# Altium schematic symbol library micromouse Schematic library.SchLib: 69 symbols
Pins are listed as number, name and electrical type; pins without a type are passive.

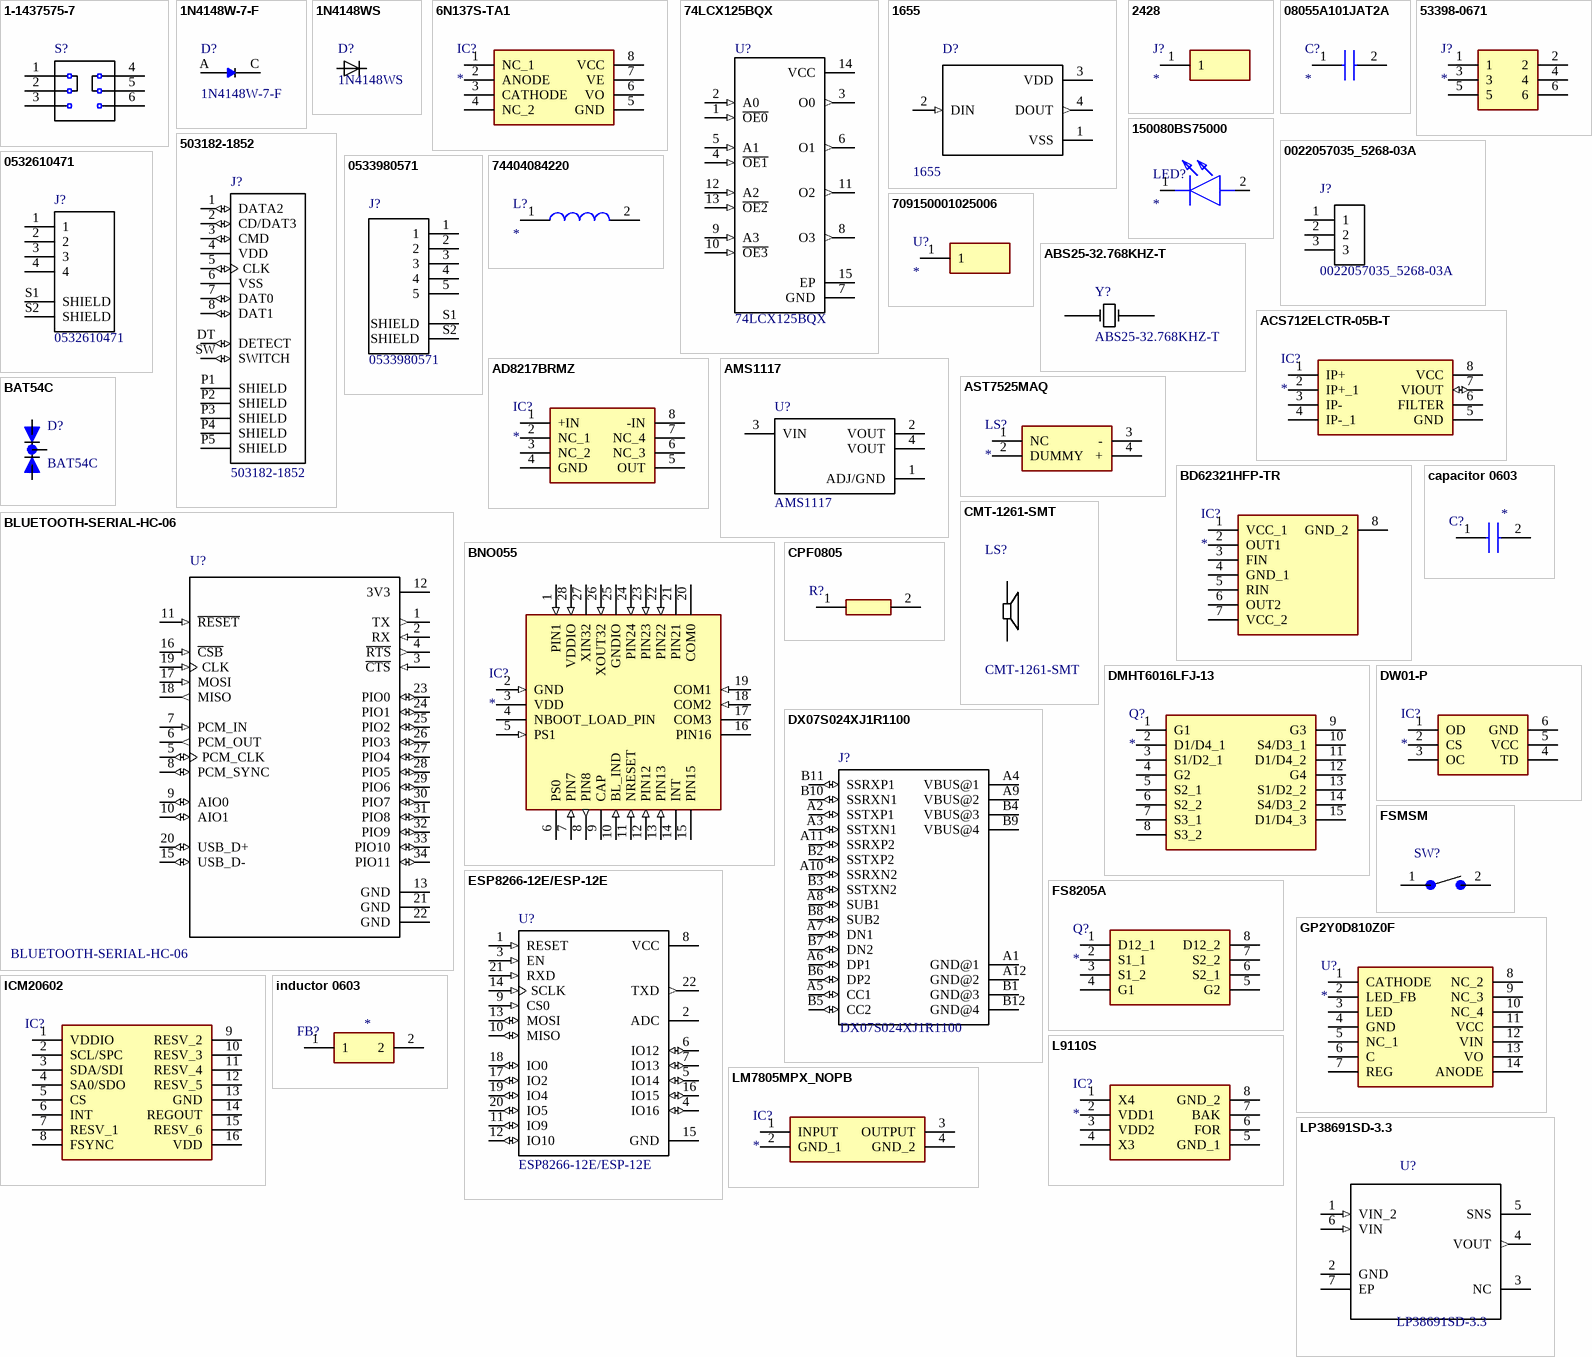
[diagram p0: symbols 1-1437575-7 to LP38691SD-3.3]

## 1-1437575-7
designator S?  (value not drawn)
Slide Switch ON ON DPDT Top Slide 0.4VA 20VAC 20VDC 10000Cycle PC Pins Through Hole; MF: TE Connectivity; Price: None; Package: None; MP: 1-1437575-7; SnapEDA_Link: https://www.snapeda.com/parts/1-1437575-7/TE%20Connectivity%20ALCOSWITCH%20Switches/view-part/?ref=snap; Availability: Unavailable; TE_purchase_URL: https://www.te.com/usa-en/product-1-1437575-7.html?te_bu=Cor&te_type=disp&te_campaign=seda_glo_cor-seda-global-disp-prtnr-fy19-seda-model-bom-cta_sma-317_1&elqCampaignId=32493; Value: *
footprint *SW_1-1437575-7
pins: 1 (power), 2 (power), 3, 4, 5 (power), 6 (power)

## 1N4148W-7-F
designator D?
1N4148W Series 2 A 100 V 400 mW Surface Mount Fast Switching Diode - SOD-123; MF: Diodes Inc.; Package: SOD-123 Diodes Inc.; MP: 1N4148W-7-F; Price: None; Availability: Unavailable; SnapEDA_Link: https://www.snapeda.com/parts/1N4148W-7-F/Diodes%20Inc./view-part/?ref=snap; Value: *
footprint *SOD3715X135N_1N4148W-7-F(Primary)
pins: A, C K

## 1N4148WS
designator D?
Diode Switching 75V 0.3A 2-Pin SOD-323 T/R; MF: ON Semiconductor; Price: None; Package: S-0 Good-Ark; MP: 1N4148WS; Availability: Unavailable; SnapEDA_Link: https://www.snapeda.com/parts/1N4148WS/ON%20Semiconductor/view-part/?ref=snap; Value: *
footprint *SOD323_1N4148WS(Primary)
pins: A, C

## 6N137S-TA1
designator IC?
Integrated Circuit; Manufacturer_Name: Lite-On; Manufacturer_Part_Number: 6N137S-TA1; Datasheet Link: http://www.mouser.com/ds/2/239/S_110_6N137 20140411-596065.pdf; Height: 4mm; Mouser Part Number: 859-6N137STA1; Mouser Price/Stock: https://www.mouser.com/Search/Refine.aspx?Keyword=859-6N137STA1
footprint SOP254P1016X400-8N
pins: 1 NC_1, 2 ANODE, 3 CATHODE, 4 NC_2, 5 GND, 6 VO, 7 VE, 8 VCC

## 74LCX125BQX
designator U?
Buffer/Line Driver 4-CH Non-Inverting 3-ST CMOS 14-Pin DQFN EP T/R; MF: ON Semiconductor; Price: None; MP: 74LCX125BQX; Availability: Unavailable; Package: DQFN-14 Fairchild Semiconductor; SnapEDA_Link: https://www.snapeda.com/parts/74LCX125BQX/ON%20Semiconductor/view-part/?ref=snap; Value: *
footprint *QFN50P300X250X85-15N
pins: 1 ~{OE0} (in), 2 A0 (in), 3 O0 (out), 4 ~{OE1} (in), 5 A1 (in), 6 O1 (out), 7 GND (power), 8 O3 (out), 9 A3 (in), 10 ~{OE3} (in), 11 O2 (out), 12 A2 (in), 13 ~{OE2} (in), 14 VCC (power), 15 EP (power)

## 1655
designator D?
Addressable Lighting Neopixel 10 LED Discrete Serial _Shift Register_ Red, Green, Blue _RGB_ 5.00mm L x 5.00mm W; MF: Adafruit; Digi-Key_Part_Number: 1528-1104-ND; MP: 1655; Package: TO-3 Adafruit; SnapEDA_Link: https://www.snapeda.com/parts/1655/Adafruit%20Industries/view-part/4299409/?ref=snap; Digi-Key_Purchase_URL: https://www.digikey.lk/product-detail/en/adafruit-industries-llc/1655/1528-1104-ND/5154679?utm_source=snapeda&utm_medium=aggregator&utm_campaign=symbol; Value: *
footprint *LED_1655
pins: 1 VSS (power), 2 DIN (in), 3 VDD (power), 4 DOUT (out)

## 2428
designator J?
Connector; Manufacturer_Name: Adafruit; Manufacturer_Part_Number: 2428; Datasheet Link: https://www.arrow.com/en/products/2428/adafruit-industries; Height: 16.5mm; Mouser Part Number: 485-2428; Mouser Price/Stock: https://www.mouser.com/Search/Refine.aspx?Keyword=485-2428
footprint 2428
pins: 1

## 08055A101JAT2A
designator C?
Capacitor; Manufacturer_Name: AVX; Manufacturer_Part_Number: 08055A101JAT2A; Allied_Number: 70474488; Datasheet Link: https://componentsearchengine.com/Datasheets/1/06031A100FAT2A.pdf; Height: 0.94mm; Mouser Part Number: 581-08055A101J; Mouser Price/Stock: https://www.mouser.com/Search/Refine.aspx?Keyword=581-08055A101J; RS Part Number: 0391000P; RS Price/Stock: http://uk.rs-online.com/web/p/products/0391000P; Allied Price/Stock: https://www.alliedelec.com/avx-08055a101jat2a/70474488/
footprint CAPC2012X94N
pins: 1, 2

## 53398-0671
designator J?
Connector; Manufacturer_Name: Molex; Manufacturer_Part_Number: 53398-0671; Allied_Number: 70090674; Datasheet Link: http://docs-emea.rs-online.com/webdocs/13c4/0900766b813c4502.pdf; Mouser Part Number: 538-53398-0671; Mouser Price/Stock: https://www.mouser.com/Search/Refine.aspx?Keyword=538-53398-0671; RS Part Number: 5427214P; RS Price/Stock: http://uk.rs-online.com/web/p/products/5427214P; Allied Price/Stock: http://www.alliedelec.com/molex-incorporated-53398-0671/70090674/
footprint 533980671
pins: 1, 2, 3, 4, 5, 6

## 150080BS75000
designator LED?
LED; Manufacturer_Name: Wurth Elektronik; Manufacturer_Part_Number: 150080BS75000; Datasheet Link: https://katalog.we-online.com/led/datasheet/150080BS75000.pdf; Height: 0.8mm; Mouser Part Number: 710-150080BS75000; Mouser Price/Stock: https://www.mouser.com/Search/Refine.aspx?Keyword=710-150080BS75000; RS Part Number: 8154228P; RS Price/Stock: http://uk.rs-online.com/web/p/products/8154228P
footprint LEDC2012X80N
pins: 1 K, 2 A

## 503182-1852
designator J?
MICRO SD NORMAL ULTRALOWPRO8CKTE; MF: Molex; MP: 5031821852; Availability: Unavailable; Package: None; Price: None; SnapEDA_Link: https://www.snapeda.com/parts/5031821852/Molex/view-part/?ref=snap; Value: *
footprint *MOLEX_503182-1852_503182-1852(Primary)
pins: 1 DATA2 (io), 2 CD/DAT3 (io), 3 CMD (io), 4 VDD (power), 5 CLK (io), 6 VSS (power), 7 DAT0 (io), 8 DAT1 (io), DT DETECT (io), P1 SHIELD, P2 SHIELD, P3 SHIELD, P4 SHIELD, P5 SHIELD, SW SWITCH (io)

## 0022057035_5268-03A
designator J?
Socket; wire-board; male; PIN: 3; 2.5mm; THT; SPOX; 3A; tinned; 20; MP: 0022057035 5268-03A; MF: Molex; Availability: Unavailable; Package: None; Price: None; SnapEDA_Link: https://www.snapeda.com/parts/0022057035%205268-03A/Molex/view-part/?ref=snap; Value: *
footprint *MOLEX_0022057035_5268-03A
pins: 1, 2, 3

## 0532610471
designator J?
/ Conn Shrouded Header HDR 4 POS 1.25mm Solder RA SMD PicoBladeâ„¢ Embossed T/R /; MF: Molex; Package: None; MP: 0532610471; Availability: Unavailable; Price: None; SnapEDA_Link: https://www.snapeda.com/parts/0532610471/Molex/view-part/?ref=snap; Value: *
footprint *MOLEX_0532610471_0532610471(Primary)
pins: 1, 2, 3, 4, S1 SHIELD, S2 SHIELD

## 0533980571
designator J?
/ Conn Shrouded Header HDR 5 POS 1.25mm Solder ST SMD PicoBladeÃƒÂ¢Ã¢Â€ÂžÂ¢ Embossed T/R /; MF: Molex; MP: 0533980571; Availability: Unavailable; SnapEDA_Link: https://www.snapeda.com/parts/0533980571/Molex/view-part/472893/?ref=snap; Package: None; Price: None; Value: *
footprint *MOLEX_0533980571_0533980571(Primary)
pins: 1, 2, 3, 4, 5, S1 SHIELD, S2 SHIELD

## 74404084220
designator L?
Inductor; Manufacturer_Name: Wurth Elektronik; Manufacturer_Part_Number: 74404084220; Datasheet Link: https://katalog.we-online.de/pbs/datasheet/74404084220.pdf; Height: 4.2mm; Mouser Part Number: 710-74404084220; Mouser Price/Stock: https://www.mouser.com/Search/Refine.aspx?Keyword=710-74404084220; RS Part Number: 8164733P; RS Price/Stock: http://uk.rs-online.com/web/p/products/8164733P
footprint INDPM8080X420N
pins: 1, 2

## 709150001025006
designator U?
Undefined or Miscellaneous; Manufacturer_Name: AVX; Manufacturer_Part_Number: 709150001025006; Datasheet Link: https://componentsearchengine.com/Datasheets/2/709150001025006.pdf; Height: 5.6mm; Mouser Part Number: 581-709150001025006; Mouser Price/Stock: https://www.mouser.com/Search/Refine.aspx?Keyword=581-709150001025006
footprint 709150001025006
pins: 1

## ABS25-32.768KHZ-T
designator Y?
32.768 Mhz Plastic Smt Low Pro; MF: Abracon LLC; Price: None; Package: None; MP: ABS25-32.768KHZ; Availability: Unavailable; SnapEDA_Link: https://www.snapeda.com/parts/ABS25-32.768KHZ/Abracon%20LLC/view-part/?ref=snap; Value: *
footprint *XTAL_ABS25-32.768KHZ-6-1-T
pins: 1, 4

## ACS712ELCTR-05B-T
designator IC?
Integrated Circuit; Manufacturer_Name: Allegro Microsystems; Manufacturer_Part_Number: ACS712ELCTR-05B-T; Allied_Number: R1076681; Datasheet Link: http://docs-emea.rs-online.com/webdocs/0d88/0900766b80d885f5.pdf; Height: 1.75mm; RS Part Number: 6807131P; RS Price/Stock: http://uk.rs-online.com/web/p/products/6807131P; Allied Price/Stock: http://www.alliedelec.com/allegro-microsystems-acs712elctr-05b-t/R1076681/
footprint SOIC127P600X175-8N
pins: 1 IP+, 2 IP+_1, 3 IP-, 4 IP-_1, 5 GND (power), 6 FILTER, 7 VIOUT (io), 8 VCC (power)

## AD8217BRMZ
designator IC?
Integrated Circuit; Manufacturer_Name: Analog Devices; Manufacturer_Part_Number: AD8217BRMZ; Datasheet Link: https://www.analog.com/media/en/technical-documentation/data-sheets/AD8217.pdf; Height: 1.1mm; Mouser Part Number: 584-AD8217BRMZ; Mouser Price/Stock: https://www.mouser.com/Search/Refine.aspx?Keyword=584-AD8217BRMZ; RS Part Number: 7590014P; RS Price/Stock: http://uk.rs-online.com/web/p/products/7590014P
footprint SOP65P490X110-8N
pins: 1 +IN, 2 NC_1, 3 NC_2, 4 GND, 5 OUT, 6 NC_3, 7 NC_4, 8 -IN

## AMS1117
designator U?
1A LOW DROPOUT VOLTAGE REGULATOR; MF: Seeed Technology; MP: AMS1117; SnapEDA_Link: https://www.snapeda.com/parts/AMS1117/Seeed%20Technology%20Co.%2C%20Ltd/view-part/?ref=snap; Price: None; Package: SOT-223 Seeed Technology; Availability: Unavailable; Value: *
footprint *SOT229P700X180-4N
pins: 1 ADJ/GND (power), 2 VOUT (power), 3 VIN (power), 4 VOUT (power)

## AST7525MAQ
designator LS?
Loudspeaker or Buzzer; Manufacturer_Name: Mallory Sonalert; Manufacturer_Part_Number: AST7525MAQ; Allied_Number: 70186690; Datasheet Link: https://www.mspindy.com/specifications/AST7525MAQ.PDF; Height: 2.5mm; Mouser Part Number: 539-AST7525MAQ; Mouser Price/Stock: https://www.mouser.com/Search/Refine.aspx?Keyword=539-AST7525MAQ; Allied Price/Stock: https://www.alliedelec.com/mallory-sonalert-ast7525maq/70186690/
footprint AST7525MAQ
pins: 1 NC, 2 DUMMY, 3 -, 4 +

## BAT54C
designator D?
MF: ON Semiconductor; Package: SOT-23-3 ON Semiconductor; Availability: Unavailable; MP: BAT54C; SnapEDA_Link: https://www.snapeda.com/parts/BAT54C/ON%20Semiconductor/view-part/?ref=snap; Price: None; Value: *
footprint *SOT23-R
pins: 1 A1, 2 A2, 3 C

## BD62321HFP-TR
designator IC?
Integrated Circuit; Manufacturer_Name: ROHM Semiconductor; Manufacturer_Part_Number: BD62321HFP-TR; Datasheet Link: http://rohmfs.rohm.com/en/products/databook/datasheet/ic/motor/dc/bd62321hfp-e.pdf; Mouser Part Number: 755-BD62321HFP-TR; Mouser Price/Stock: https://www.mouser.com/Search/Refine.aspx?Keyword=755-BD62321HFP-TR; RS Part Number: 1246483P; RS Price/Stock: http://uk.rs-online.com/web/p/products/1246483P
footprint HRP7
pins: 1 VCC_1, 2 OUT1, 3 FIN, 4 GND_1, 5 RIN, 6 OUT2, 7 VCC_2, 8 GND_2

## BLUETOOTH-SERIAL-HC-06
designator U?
Bluetooth Modules _802.15.1_ BLUETOOTH-SERIAL-HC-06; MF: Olimex; Price: None; MP: BLUETOOTH-SERIAL-HC-06; Package: None; SnapEDA_Link: https://www.snapeda.com/parts/BLUETOOTH-SERIAL-HC-06/Olimex/view-part/?ref=snap; Availability: Unavailable; Value: *
footprint *XCVR_BLUETOOTH-SERIAL-HC-06
pins: 1 TX (out), 2 RX (in), 3 ~{CTS} (in), 4 ~{RTS} (out), 5 PCM_CLK (io), 6 PCM_OUT (out), 7 PCM_IN (in), 8 PCM_SYNC (io), 9 AIO0 (io), 10 AIO1 (io), 11 ~{RESET} (in), 12 3V3 (power), 13 GND (power), 15 USB_D- (io), 16 ~{CSB} (in), 17 MOSI (in), 18 MISO (out), 19 CLK (in), 20 USB_D+ (io), 21 GND (power), 22 GND (power), 23 PIO0 (io), 24 PIO1 (io), 25 PIO2 (io), 26 PIO3 (io), 27 PIO4 (io), 28 PIO5 (io), 29 PIO6 (io), 30 PIO7 (io), 31 PIO8 (io), 32 PIO9 (io), 33 PIO10 (io), 34 PIO11 (io)

## BNO055
designator IC?
Integrated Circuit; Manufacturer_Name: Bosch Sensortec; Manufacturer_Part_Number: BNO055; Datasheet Link: https://ae-bst.resource.bosch.com/media/_tech/media/datasheets/BST_BNO055_DS000_14.pdf; Height: 1mm; Mouser Part Number: 262-BNO055; Mouser Price/Stock: https://www.mouser.com/Search/Refine.aspx?Keyword=262-BNO055
footprint BNO055
pins: 1 PIN1 (in), 2 GND (in), 3 VDD (power), 4 NBOOT_LOAD_PIN (power), 5 PS1 (in), 6 PS0 (power), 7 PIN7 (in), 8 PIN8 (out), 9 CAP (power), 10 BL_IND (in), 11 NRESET (in), 12 PIN12 (in), 13 PIN13 (in), 14 INT, 15 PIN15, 16 PIN16, 17 COM3, 18 COM2 (in), 19 COM1 (in), 20 COM0, 21 PIN21, 22 PIN22 (in), 23 PIN23 (in), 24 PIN24 (in), 25 GNDIO, 26 XOUT32 (in), 27 XIN32, 28 VDDIO (in)

## capacitor 0603
designator C?
Capacitor; value: *
footprint *CAPC1608X95N
pins: 1, 2

## CMT-1261-SMT
designator LS?
16.9 mm, 20 V, 90 dB, Surface Mount _SMT_, Piezo Audio Transducer Buzzer; MF: CUI Devices; Price: None; Package: CUI Inc.; MP: CMT-1261-SMT; Availability: Unavailable; SnapEDA_Link: https://www.snapeda.com/parts/CMT-1261-SMT/CUI%20Devices/view-part/?ref=snap; CUI_purchase_URL: https://www.cuidevices.com/product/audio/buzzers/audio-transducers/cmt-1261-smt?utm_source=snapeda.com&utm_medium=referral&utm_campaign=snapedaBOM; Value: *
footprint *CUI_CMT-1261-SMT
pins: 1, 2

## CPF0805
designator R?  (value not drawn)
Resistor; Manufacturer_Name: TE Connectivity; Manufacturer_Part_Number: CPF0805B100KE; Allied_Number: 70286772; Datasheet Link: http://docs-europe.electrocomponents.com/webdocs/13d1/0900766b813d116f.pdf; Height: 0.65mm; Mouser Part Number: 279-CPF0805B100KE; Mouser Price/Stock: https://www.mouser.com/Search/Refine.aspx?Keyword=279-CPF0805B100KE; RS Part Number: 6662673; RS Price/Stock: https://uk.rs-online.com/web/p/products/6662673; Allied Price/Stock: https://www.alliedelec.com/te-connectivity-cpf0805b100ke/70286772/; Value: *
footprint RESC2012X65N
pins: 1, 2

## DMHT6016LFJ-13
designator Q?
Transistor; Manufacturer_Name: Diodes Inc.; Manufacturer_Part_Number: DMHT6016LFJ-13; Description: MOSFET MOSFET BVDSS: 41V-60V; Datasheet Link: https://www.mouser.com/datasheet/2/115/DMHT6016LFJ-1115051.pdf; Height: 0.8mm; Mouser Part Number: 621-DMHT6016LFJ-13; Mouser Price/Stock: https://www.mouser.com/Search/Refine.aspx?Keyword=621-DMHT6016LFJ-13
footprint DMHT6016LFJ13
pins: 1 G1, 2 D1/D4_1, 3 S1/D2_1, 4 G2, 5 S2_1, 6 S2_2, 7 S3_1, 8 S3_2, 9 G3, 10 S4/D3_1, 11 D1/D4_2, 12 G4, 13 S1/D2_2, 14 S4/D3_2, 15 D1/D4_3

## DW01-P
designator IC?
Integrated Circuit; Manufacturer_Name: Fortune Semiconductor Corporation; Manufacturer_Part_Number: DW01-P; Datasheet Link: https://cdn.sparkfun.com/assets/learn_tutorials/2/5/1/DW01-P_DataSheet_V10.pdf; Height: 1.35mm; ComponentLink1Description: DW01; ComponentLink1URL: https://lcsc.com/product-detail/MOSFET_DW01_C181096.html
footprint SOT95P280X135-6N
pins: 1 OD, 2 CS, 3 OC, 4 TD, 5 VCC, 6 GND

## DX07S024XJ1R1100
designator J?
Cut Tape - Usb Type c Receptacle Mid Mnt Dual r; MF: JAE Electronics; SnapEDA_Link: https://www.snapeda.com/parts/DX07S024XJ1R1100/JAE%20Electronics/view-part/?ref=snap; Package: None; MP: DX07S024XJ1R1100; Availability: Unavailable; Price: None; Value: *
footprint *JAE_DX07S024XJ1R1100_DX07S024XJ1R1100(Primary)
pins: A1 GND@1 (power), A2 SSTXP1 (io), A3 SSTXN1 (io), A4 VBUS@1 (power), A5 CC1 (io), A6 DP1 (io), A7 DN1 (io), A8 SUB1 (io), A9 VBUS@2 (power), A10 SSRXN2 (io), A11 SSRXP2 (io), A12 GND@2 (power), B1 GND@3 (power), B2 SSTXP2 (io), B3 SSTXN2 (io), B4 VBUS@3 (power), B5 CC2 (io), B6 DP2 (io), B7 DN2 (io), B8 SUB2 (io), B9 VBUS@4 (power), B10 SSRXN1 (io), B11 SSRXP1 (io), B12 GND@4 (power)

## ESP8266-12E/ESP-12E
designator U?
This WiFi module has a 32-bit MCU micro and clock speeds supporting 80 MHz or 160 MHz. Supports the RTOS and integrated Wi-Fi MAC/BB/RF/PA/LNA, and has an on-board antenna.; MF: AI-Thinker; Price: None; MP: ESP8266-12E/ESP-12E; Package: None; SnapEDA_Link: https://www.snapeda.com/parts/ESP8266-12E/ESP-12E/AI-Thinker/view-part/?ref=snap; Availability: Unavailable; Value: *
footprint *XCVR_ESP8266-12E/ESP-12E
pins: 1 RESET (in), 2 ADC, 3 EN (in), 4 IO16 (io), 5 IO14 (io), 6 IO12 (io), 7 IO13 (io), 8 VCC (power), 9 CS0 (in), 10 MISO (io), 11 IO9 (io), 12 IO10 (io), 13 MOSI (io), 14 SCLK (in), 15 GND (power), 16 IO15 (io), 17 IO2 (io), 18 IO0 (io), 19 IO4 (io), 20 IO5 (io), 21 RXD (in), 22 TXD (out)

## FS8205A
designator Q?
Transistor; Manufacturer_Name: SII Semiconductor; Manufacturer_Part_Number: FS8205A; Datasheet Link: http://www.ic-fortune.com/upload/Download/FS8205A-DS-12_EN.pdf; Height: 1.2mm
footprint SOP65P640X120-8N
pins: 1 D12_1, 2 S1_1, 3 S1_2, 4 G1, 5 G2, 6 S2_1, 7 S2_2, 8 D12_2

## FSMSM
designator SW?, comment 1437566-3  (value not drawn)
Switch Tactile OFF _ON_ SPST Rectangular Button Gull Wing 0.05A 12VDC SMD Loose Piece; MF: TE Connectivity; MP: FSMSM; Configuration_Pole-Throw: Single Pole - Single Throw; Contact_Current_Rating: 50 mA; Availability: Unavailable; Price: None; Package: None; SnapEDA_Link: https://www.snapeda.com/parts/FSMSM/TE%20Connectivity%20ALCOSWITCH%20Switches/view-part/?ref=snap; TE_purchase_URL: https://www.te.com/usa-en/product-1437566-3.html?te_bu=Cor&te_type=disp&te_campaign=seda_glo_cor-seda-global-disp-prtnr-fy19-seda-model-bom-cta_sma-317_1&elqCampaignId=32493; Value: *
footprint *TE_FSMSM
pins: 1, 2

## GP2Y0D810Z0F
designator U?
Undefined or Miscellaneous; Manufacturer_Name: Sharp Microelectronics; Manufacturer_Part_Number: GP2Y0D810Z0F; Allied_Number: R1016464; Datasheet Link: http://docs-emea.rs-online.com/webdocs/0d1b/0900766b80d1bdd5.pdf; Mouser Part Number: 852-GP2Y0D810Z0F; Mouser Price/Stock: https://www.mouser.com/Search/Refine.aspx?Keyword=852-GP2Y0D810Z0F; RS Part Number: 6666580P; RS Price/Stock: http://uk.rs-online.com/web/p/products/6666580P; Allied Price/Stock: https://www.alliedelec.com/sharp-gp2y0d810z0f/R1016464/
footprint GP2Y0D810Z0F
pins: 1 CATHODE, 2 LED_FB, 3 LED, 4 GND, 5 NC_1, 6 C, 7 REG, 8 NC_2, 9 NC_3, 10 NC_4, 11 VCC, 12 VIN, 13 VO, 14 ANODE

## ICM20602
designator IC?  (value not drawn)
Integrated Circuit
footprint PULL-BACK-QFN-16
pins: 1 VDDIO, 2 SCL/SPC, 3 SDA/SDI, 4 SA0/SDO, 5 CS, 6 INT, 7 RESV_1, 8 FSYNC, 9 RESV_2, 10 RESV_3, 11 RESV_4, 12 RESV_5, 13 GND, 14 REGOUT, 15 RESV_6, 16 VDD

## inductor 0603
designator FB?
Ferrite Bead; value: *
footprint BEADC1608X95N
pins: 1, 2

## L9110S
designator IC?
Integrated Circuit; Manufacturer_Name: Wuxi I-core Elec; Manufacturer_Part_Number: L9110S; Datasheet Link: https://datasheet.lcsc.com/szlcsc/Wuxi-Zhongwei-Aisin-Elec-L9110S_C85174.pdf; Height: 1.75mm
footprint SOIC127P600X175-8N
pins: 1 X4, 2 VDD1, 3 VDD2, 4 X3, 5 GND_1, 6 FOR, 7 BAK, 8 GND_2

## LM7805MPX_NOPB
designator IC?
Integrated Circuit; Manufacturer_Name: Texas Instruments; Manufacturer_Part_Number: LM7805MPX/NOPB; Datasheet Link: https://www.arrow.com/en/products/lm7805mpxnopb/texas-instruments; Height: 1.8mm; Mouser Part Number: 595-LM7805MPX/NOPB; Mouser Price/Stock: https://www.mouser.com/Search/Refine.aspx?Keyword=595-LM7805MPX%2FNOPB
footprint SOT230P700X180-4N
pins: 1 INPUT, 2 GND_1, 3 OUTPUT, 4 GND_2

## LP38691SD-3.3
designator U?
500mA Low Dropout CMOS Linear Regulators Stable with Ceramic Output Capacitors 6-WSON -40 to 125; MF: Texas Instruments; MP: LP38691SD-3.3; Price: None; SnapEDA_Link: https://www.snapeda.com/parts/LP38691SD-3.3/Texas%20Instruments/view-part/?ref=snap; Availability: Unavailable; Package: WDFN-6 Texas Instruments; Value: *
footprint *DFN300X300X80-7N
pins: 1 VIN_2 (in), 2 GND, 3 NC, 4 VOUT (out), 5 SNS, 6 VIN (in), 7 EP

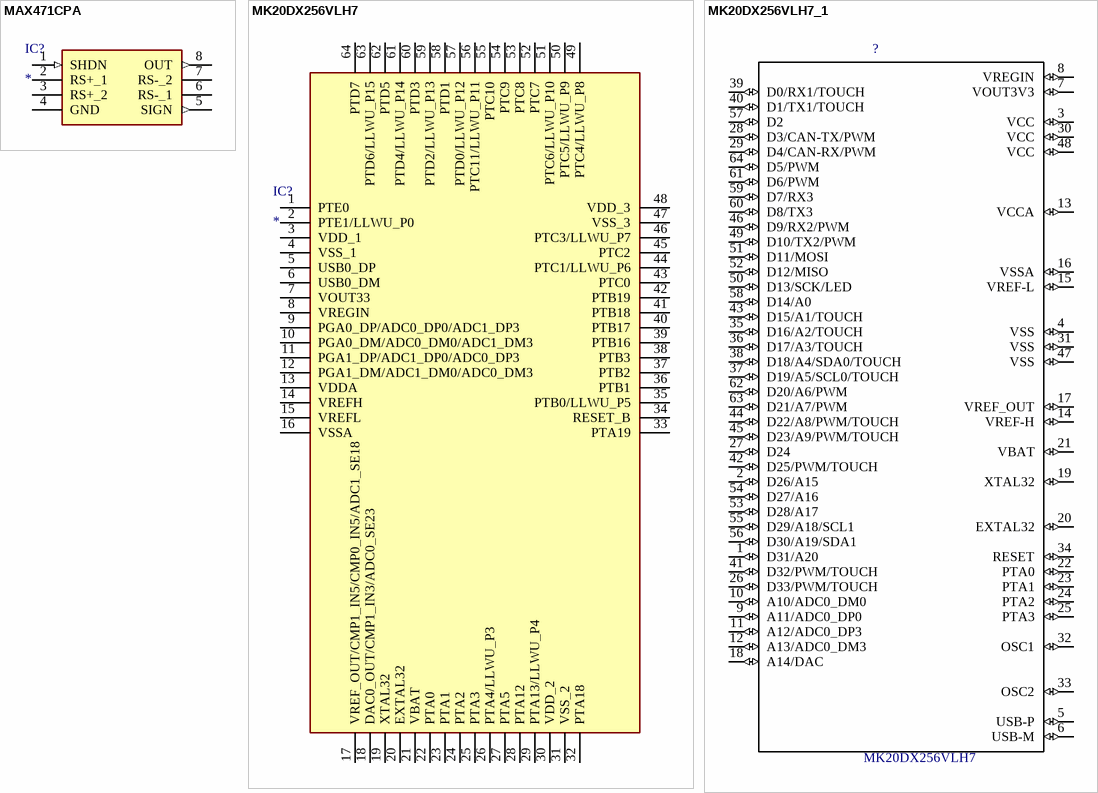
[diagram p1: symbols MAX471CPA to MK20DX256VLH7_1]

## MAX471CPA
designator IC?
Integrated Circuit; Manufacturer_Name: Maxim Integrated; Manufacturer_Part_Number: MAX471CPA; Datasheet Link: https://pdfserv.maximintegrated.com/en/ds/MAX471-MAX472.pdf; Height: 1.75mm; Mouser Part Number: 700-MAX471CPANR; Mouser Price/Stock: https://www.mouser.com/Search/Refine.aspx?Keyword=700-MAX471CPANR; RS Part Number: 0810352; RS Price/Stock: http://uk.rs-online.com/web/p/products/0810352
footprint SOIC127P600X175-8N
pins: 1 SHDN (in), 2 RS+_1 (power), 3 RS+_2 (power), 4 GND (power), 5 SIGN (out), 6 RS-_1 (power), 7 RS-_2 (power), 8 OUT (out)

## MK20DX256VLH7
designator IC?
Integrated Circuit; Manufacturer_Name: Nexperia; Manufacturer_Part_Number: MK20DX256VLH7; Datasheet Link: https://www.nxp.com/docs/en/data-sheet/K20P64M72SF1.pdf; Height: 1.6mm; Mouser Part Number: 841-MK20DX256VLH7; Mouser Price/Stock: https://www.mouser.com/Search/Refine.aspx?Keyword=841-MK20DX256VLH7; RS Part Number: 7862120P; RS Price/Stock: http://uk.rs-online.com/web/p/products/7862120P
footprint QFP50P1200X1200X160-64N
pins: 1 PTE0, 2 PTE1/LLWU_P0, 3 VDD_1, 4 VSS_1, 5 USB0_DP, 6 USB0_DM, 7 VOUT33, 8 VREGIN, 9 PGA0_DP/ADC0_DP0/ADC1_DP3, 10 PGA0_DM/ADC0_DM0/ADC1_DM3, 11 PGA1_DP/ADC1_DP0/ADC0_DP3, 12 PGA1_DM/ADC1_DM0/ADC0_DM3, 13 VDDA, 14 VREFH, 15 VREFL, 16 VSSA, 17 VREF_OUT/CMP1_IN5/CMP0_IN5/ADC1_SE18, 18 DAC0_OUT/CMP1_IN3/ADC0_SE23, 19 XTAL32, 20 EXTAL32, 21 VBAT, 22 PTA0, 23 PTA1, 24 PTA2, 25 PTA3, 26 PTA4/LLWU_P3, 27 PTA5, 28 PTA12, 29 PTA13/LLWU_P4, 30 VDD_2, 31 VSS_2, 32 PTA18, 33 PTA19, 34 RESET_B, 35 PTB0/LLWU_P5, 36 PTB1, 37 PTB2, 38 PTB3, 39 PTB16, 40 PTB17, 41 PTB18, 42 PTB19, 43 PTC0, 44 PTC1/LLWU_P6, 45 PTC2, 46 PTC3/LLWU_P7, 47 VSS_3, 48 VDD_3, 49 PTC4/LLWU_P8, 50 PTC5/LLWU_P9, 51 PTC6/LLWU_P10, 52 PTC7, 53 PTC8, 54 PTC9, 55 PTC10, 56 PTC11/LLWU_P11, 57 PTD0/LLWU_P12, 58 PTD1, 59 PTD2/LLWU_P13, 60 PTD3, 61 PTD4/LLWU_P14, 62 PTD5, 63 PTD6/LLWU_P15, 64 PTD7

## MK20DX256VLH7_1
designator ?, comment MK20DX256VLH7
Kinetis K20: 72MHz Cortex-M4 Performance MCU, 288KB Flash, 64KB SRAM, Full-Speed USB, 64-LQFP; MF: NXP USA; Package: LQFP-64 NXP Semiconductors; Availability: Unavailable; MP: MK20DX256VLH7; SnapEDA_Link: https://www.snapeda.com/parts/MK20DX256VLH7/NXP%20USA%20Inc./view-part/?ref=snap; Price: None; Value: *
footprint QFP50P1200X1200X160-64N
pins: 1 D31/A20 (io), 2 D26/A15 (io), 3 VCC (io), 4 VSS (io), 5 USB-P (io), 6 USB-M (io), 7 VOUT3V3 (io), 8 VREGIN (io), 9 A11/ADC0_DP0 (io), 10 A10/ADC0_DM0 (io), 11 A12/ADC0_DP3 (io), 12 A13/ADC0_DM3 (io), 13 VCCA (io), 14 VREF-H (io), 15 VREF-L (io), 16 VSSA (io), 17 VREF_OUT (io), 18 A14/DAC (io), 19 XTAL32 (io), 20 EXTAL32 (io), 21 VBAT (io), 22 PTA0 (io), 23 PTA1 (io), 24 PTA2 (io), 25 PTA3 (io), 26 D33/PWM/TOUCH (io), 27 D24 (io), 28 D3/CAN-TX/PWM (io), 29 D4/CAN-RX/PWM (io), 30 VCC (io), 31 VSS (io), 32 OSC1 (io), 33 OSC2 (io), 34 RESET (io), 35 D16/A2/TOUCH (io), 36 D17/A3/TOUCH (io), 37 D19/A5/SCL0/TOUCH (io), 38 D18/A4/SDA0/TOUCH (io), 39 D0/RX1/TOUCH (io), 40 D1/TX1/TOUCH (io), 41 D32/PWM/TOUCH (io), 42 D25/PWM/TOUCH (io), 43 D15/A1/TOUCH (io), 44 D22/A8/PWM/TOUCH (io), 45 D23/A9/PWM/TOUCH (io), 46 D9/RX2/PWM (io), 47 VSS (io), 48 VCC (io), 49 D10/TX2/PWM (io), 50 D13/SCK/LED (io), 51 D11/MOSI (io), 52 D12/MISO (io), 53 D28/A17 (io), 54 D27/A16 (io), 55 D29/A18/SCL1 (io), 56 D30/A19/SDA1 (io), 57 D2 (io), 58 D14/A0 (io), 59 D7/RX3 (io), 60 D8/TX3 (io), 61 D6/PWM (io), 62 D20/A6/PWM (io), 63 D21/A7/PWM (io), 64 D5/PWM (io)

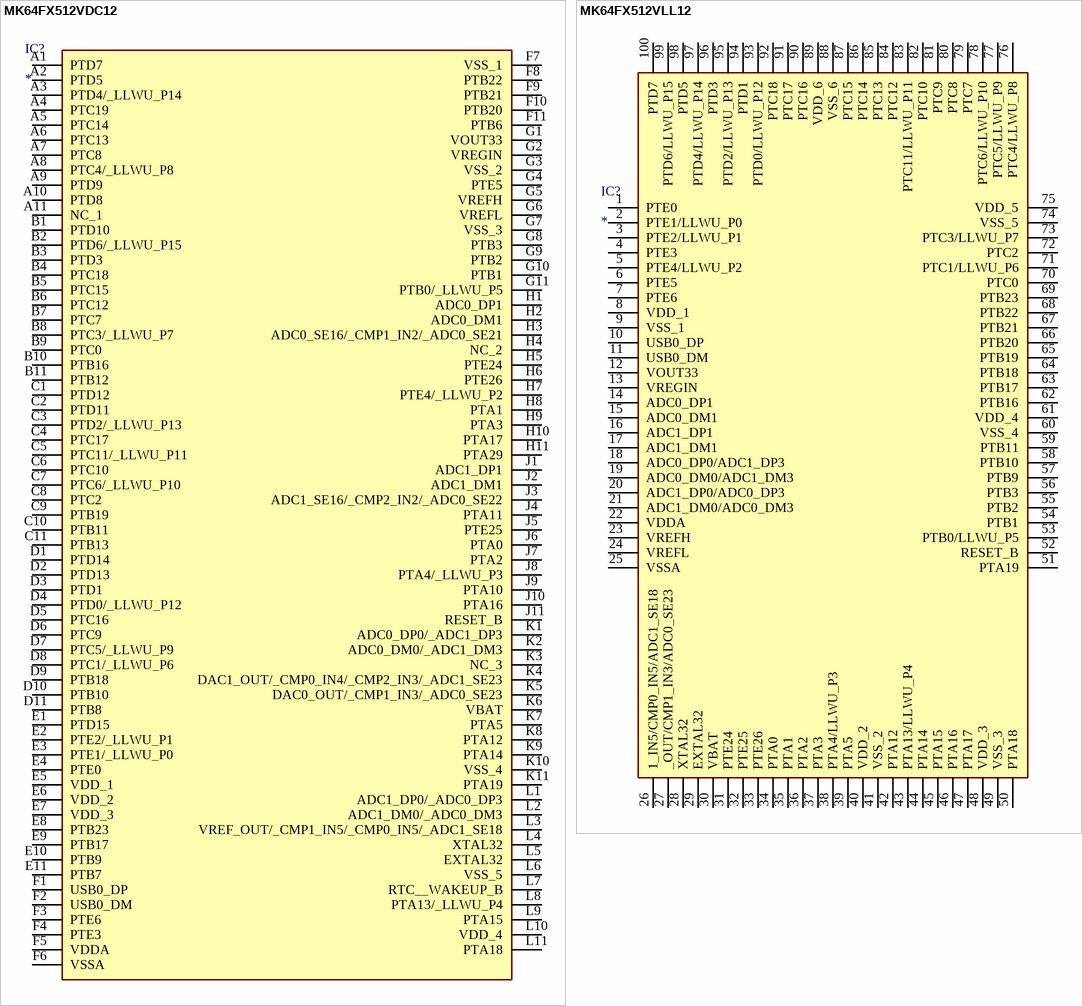
[diagram p2: symbols MK64FX512VDC12 to MK64FX512VLL12]

## MK64FX512VDC12
designator IC?
Integrated Circuit; Manufacturer_Name: Nexperia; Manufacturer_Part_Number: MK64FX512VDC12; Datasheet Link: https://www.nxp.com/docs/en/data-sheet/K64P144M120SF5.pdf; Height: 0.5mm; Mouser Part Number: 841-MK64FX512VDC12; Mouser Price/Stock: https://www.mouser.com/Search/Refine.aspx?Keyword=841-MK64FX512VDC12
footprint BGA121C65P11X11_800X800X50
pins: A1 PTD7, A2 PTD5, A3 PTD4/_LLWU_P14, A4 PTC19, A5 PTC14, A6 PTC13, A7 PTC8, A8 PTC4/_LLWU_P8, A9 PTD9, A10 PTD8, A11 NC_1, B1 PTD10, B2 PTD6/_LLWU_P15, B3 PTD3, B4 PTC18, B5 PTC15, B6 PTC12, B7 PTC7, B8 PTC3/_LLWU_P7, B9 PTC0, B10 PTB16, B11 PTB12, C1 PTD12, C2 PTD11, C3 PTD2/_LLWU_P13, C4 PTC17, C5 PTC11/_LLWU_P11, C6 PTC10, C7 PTC6/_LLWU_P10, C8 PTC2, C9 PTB19, C10 PTB11, C11 PTB13, D1 PTD14, D2 PTD13, D3 PTD1, D4 PTD0/_LLWU_P12, D5 PTC16, D6 PTC9, D7 PTC5/_LLWU_P9, D8 PTC1/_LLWU_P6, D9 PTB18, D10 PTB10, D11 PTB8, E1 PTD15, E2 PTE2/_LLWU_P1, E3 PTE1/_LLWU_P0, E4 PTE0, E5 VDD_1, E6 VDD_2, E7 VDD_3, E8 PTB23, E9 PTB17, E10 PTB9, E11 PTB7, F1 USB0_DP, F2 USB0_DM, F3 PTE6, F4 PTE3, F5 VDDA, F6 VSSA, F7 VSS_1, F8 PTB22, F9 PTB21, F10 PTB20, F11 PTB6, G1 VOUT33, G2 VREGIN, G3 VSS_2, G4 PTE5, G5 VREFH, G6 VREFL, G7 VSS_3, G8 PTB3, G9 PTB2, G10 PTB1, G11 PTB0/_LLWU_P5, H1 ADC0_DP1, H2 ADC0_DM1, H3 ADC0_SE16/_CMP1_IN2/_ADC0_SE21, H4 NC_2, H5 PTE24, H6 PTE26, H7 PTE4/_LLWU_P2, H8 PTA1, H9 PTA3, H10 PTA17, H11 PTA29, J1 ADC1_DP1, J2 ADC1_DM1, J3 ADC1_SE16/_CMP2_IN2/_ADC0_SE22, J4 PTA11, J5 PTE25, J6 PTA0, J7 PTA2, J8 PTA4/_LLWU_P3, J9 PTA10, J10 PTA16, J11 RESET_B, K1 ADC0_DP0/_ADC1_DP3, K2 ADC0_DM0/_ADC1_DM3, K3 NC_3, K4 DAC1_OUT/_CMP0_IN4/_CMP2_IN3/_ADC1_SE23, K5 DAC0_OUT/_CMP1_IN3/_ADC0_SE23, K6 VBAT, K7 PTA5, K8 PTA12, K9 PTA14, K10 VSS_4, K11 PTA19, L1 ADC1_DP0/_ADC0_DP3, L2 ADC1_DM0/_ADC0_DM3, L3 VREF_OUT/_CMP1_IN5/_CMP0_IN5/_ADC1_SE18, L4 XTAL32, L5 EXTAL32, L6 VSS_5, L7 RTC__WAKEUP_B, L8 PTA13/_LLWU_P4, L9 PTA15, L10 VDD_4, L11 PTA18

## MK64FX512VLL12
designator IC?
Integrated Circuit; Manufacturer_Name: Nexperia; Manufacturer_Part_Number: MK64FX512VLL12; Datasheet Link: https://componentsearchengine.com/Datasheets/1/MK64FX512VLL12.pdf; Height: 1.7mm; Mouser Part Number: 841-MK64FX512VLL12; Mouser Price/Stock: https://www.mouser.com/Search/Refine.aspx?Keyword=841-MK64FX512VLL12
footprint QFP50P1600X1600X170-100N
pins: 1 PTE0, 2 PTE1/LLWU_P0, 3 PTE2/LLWU_P1, 4 PTE3, 5 PTE4/LLWU_P2, 6 PTE5, 7 PTE6, 8 VDD_1, 9 VSS_1, 10 USB0_DP, 11 USB0_DM, 12 VOUT33, 13 VREGIN, 14 ADC0_DP1, 15 ADC0_DM1, 16 ADC1_DP1, 17 ADC1_DM1, 18 ADC0_DP0/ADC1_DP3, 19 ADC0_DM0/ADC1_DM3, 20 ADC1_DP0/ADC0_DP3, 21 ADC1_DM0/ADC0_DM3, 22 VDDA, 23 VREFH, 24 VREFL, 25 VSSA, 26 1_IN5/CMP0_IN5/ADC1_SE18, 27 _OUT/CMP1_IN3/ADC0_SE23, 28 XTAL32, 29 EXTAL32, 30 VBAT, 31 PTE24, 32 PTE25, 33 PTE26, 34 PTA0, 35 PTA1, 36 PTA2, 37 PTA3, 38 PTA4/LLWU_P3, 39 PTA5, 40 VDD_2, 41 VSS_2, 42 PTA12, 43 PTA13/LLWU_P4, 44 PTA14, 45 PTA15, 46 PTA16, 47 PTA17, 48 VDD_3, 49 VSS_3, 50 PTA18, 51 PTA19, 52 RESET_B, 53 PTB0/LLWU_P5, 54 PTB1, 55 PTB2, 56 PTB3, 57 PTB9, 58 PTB10, 59 PTB11, 60 VSS_4, 61 VDD_4, 62 PTB16, 63 PTB17, 64 PTB18, 65 PTB19, 66 PTB20, 67 PTB21, 68 PTB22, 69 PTB23, 70 PTC0, 71 PTC1/LLWU_P6, 72 PTC2, 73 PTC3/LLWU_P7, 74 VSS_5, 75 VDD_5, 76 PTC4/LLWU_P8, 77 PTC5/LLWU_P9, 78 PTC6/LLWU_P10, 79 PTC7, 80 PTC8, 81 PTC9, 82 PTC10, 83 PTC11/LLWU_P11, 84 PTC12, 85 PTC13, 86 PTC14, 87 PTC15, 88 VSS_6, 89 VDD_6, 90 PTC16, 91 PTC17, 92 PTC18, 93 PTD0/LLWU_P12, 94 PTD1, 95 PTD2/LLWU_P13, 96 PTD3, 97 PTD4/LLWU_P14, 98 PTD5, 99 PTD6/LLWU_P15, 100 PTD7

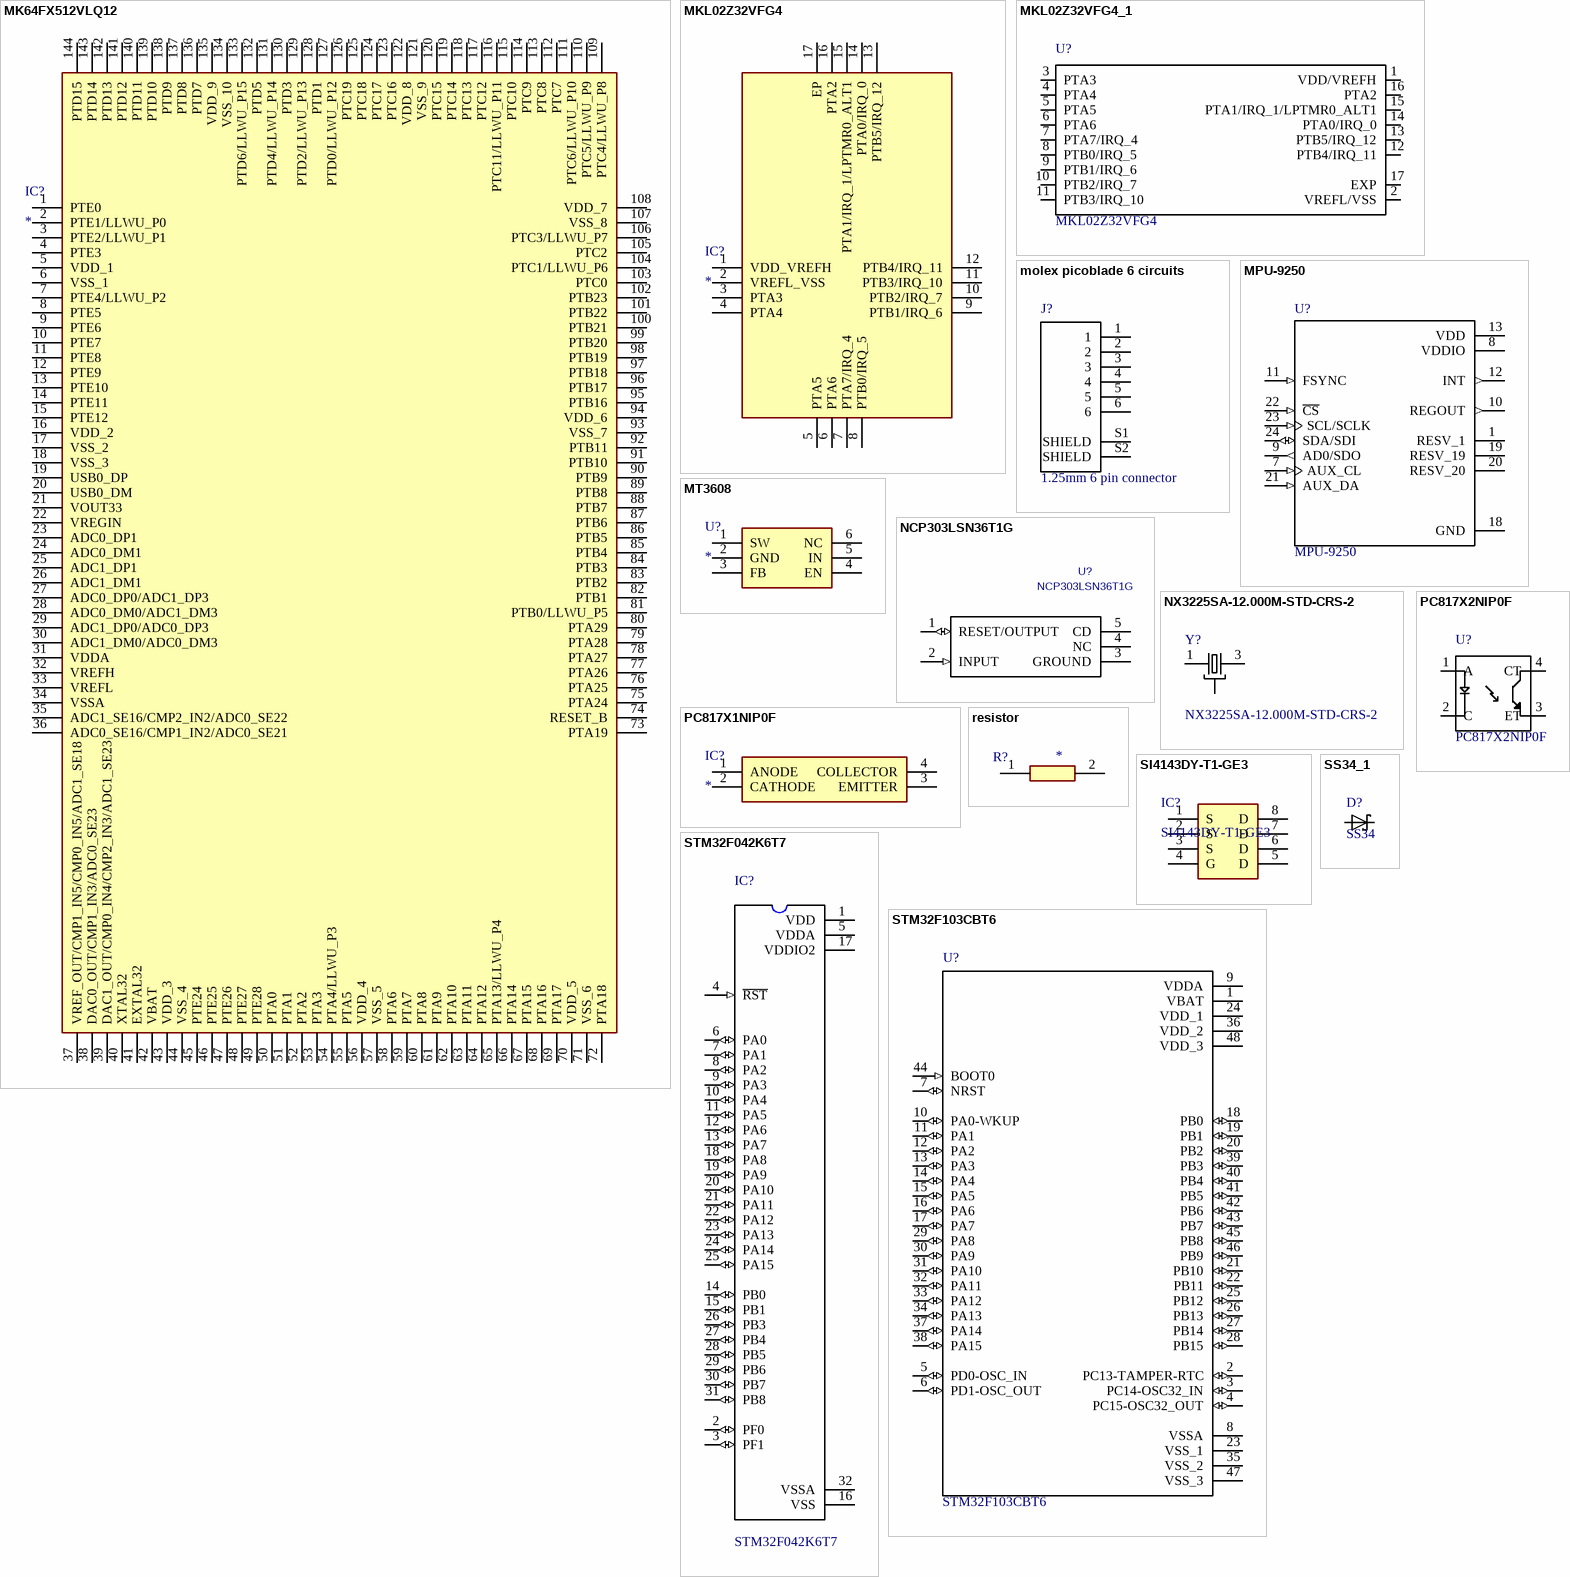
[diagram p3: symbols MK64FX512VLQ12 to STM32F103CBT6]

## MK64FX512VLQ12
designator IC?
Integrated Circuit; Manufacturer_Name: Nexperia; Manufacturer_Part_Number: MK64FX512VLQ12; Datasheet Link: https://www.nxp.com/docs/en/data-sheet/K64P144M120SF5.pdf; Height: 1.6mm; Mouser Part Number: 841-MK64FX512VLQ12; Mouser Price/Stock: https://www.mouser.com/Search/Refine.aspx?Keyword=841-MK64FX512VLQ12
footprint QFP50P2200X2200X160-144N
pins: 1 PTE0, 2 PTE1/LLWU_P0, 3 PTE2/LLWU_P1, 4 PTE3, 5 VDD_1, 6 VSS_1, 7 PTE4/LLWU_P2, 8 PTE5, 9 PTE6, 10 PTE7, 11 PTE8, 12 PTE9, 13 PTE10, 14 PTE11, 15 PTE12, 16 VDD_2, 17 VSS_2, 18 VSS_3, 19 USB0_DP, 20 USB0_DM, 21 VOUT33, 22 VREGIN, 23 ADC0_DP1, 24 ADC0_DM1, 25 ADC1_DP1, 26 ADC1_DM1, 27 ADC0_DP0/ADC1_DP3, 28 ADC0_DM0/ADC1_DM3, 29 ADC1_DP0/ADC0_DP3, 30 ADC1_DM0/ADC0_DM3, 31 VDDA, 32 VREFH, 33 VREFL, 34 VSSA, 35 ADC1_SE16/CMP2_IN2/ADC0_SE22, 36 ADC0_SE16/CMP1_IN2/ADC0_SE21, 37 VREF_OUT/CMP1_IN5/CMP0_IN5/ADC1_SE18, 38 DAC0_OUT/CMP1_IN3/ADC0_SE23, 39 DAC1_OUT/CMP0_IN4/CMP2_IN3/ADC1_SE23, 40 XTAL32, 41 EXTAL32, 42 VBAT, 43 VDD_3, 44 VSS_4, 45 PTE24, 46 PTE25, 47 PTE26, 48 PTE27, 49 PTE28, 50 PTA0, 51 PTA1, 52 PTA2, 53 PTA3, 54 PTA4/LLWU_P3, 55 PTA5, 56 VDD_4, 57 VSS_5, 58 PTA6, 59 PTA7, 60 PTA8, 61 PTA9, 62 PTA10, 63 PTA11, 64 PTA12, 65 PTA13/LLWU_P4, 66 PTA14, 67 PTA15, 68 PTA16, 69 PTA17, 70 VDD_5, 71 VSS_6, 72 PTA18, 73 PTA19, 74 RESET_B, 75 PTA24, 76 PTA25, 77 PTA26, 78 PTA27, 79 PTA28, 80 PTA29, 81 PTB0/LLWU_P5, 82 PTB1, 83 PTB2, 84 PTB3, 85 PTB4, 86 PTB5, 87 PTB6, 88 PTB7, 89 PTB8, 90 PTB9, 91 PTB10, 92 PTB11, 93 VSS_7, 94 VDD_6, 95 PTB16, 96 PTB17, 97 PTB18, 98 PTB19, 99 PTB20, 100 PTB21, 101 PTB22, 102 PTB23, 103 PTC0, 104 PTC1/LLWU_P6, 105 PTC2, 106 PTC3/LLWU_P7, 107 VSS_8, 108 VDD_7, 109 PTC4/LLWU_P8, 110 PTC5/LLWU_P9, 111 PTC6/LLWU_P10, 112 PTC7, 113 PTC8, 114 PTC9, 115 PTC10, 116 PTC11/LLWU_P11, 117 PTC12, 118 PTC13, 119 PTC14, 120 PTC15, 121 VSS_9, 122 VDD_8, 123 PTC16, 124 PTC17, 125 PTC18, 126 PTC19, 127 PTD0/LLWU_P12, 128 PTD1, 129 PTD2/LLWU_P13, 130 PTD3, 131 PTD4/LLWU_P14, 132 PTD5, 133 PTD6/LLWU_P15, 134 VSS_10, 135 VDD_9, 136 PTD7, 137 PTD8, 138 PTD9, 139 PTD10, 140 PTD11, 141 PTD12, 142 PTD13, 143 PTD14, 144 PTD15

## MKL02Z32VFG4
designator IC?
Integrated Circuit; Manufacturer_Name: Nexperia; Manufacturer_Part_Number: MKL02Z32VFG4; Datasheet Link: https://www.nxp.com/docs/en/data-sheet/KL02P32M48SF0.pdf; Height: 0.65mm; Mouser Part Number: 841-MKL02Z32VFG4; Mouser Price/Stock: https://www.mouser.com/Search/Refine.aspx?Keyword=841-MKL02Z32VFG4; RS Part Number: 7884723P; RS Price/Stock: http://uk.rs-online.com/web/p/products/7884723P
footprint QFN50P300X300X65-17N-D
pins: 1 VDD_VREFH, 2 VREFL_VSS, 3 PTA3, 4 PTA4, 5 PTA5, 6 PTA6, 7 PTA7/IRQ_4, 8 PTB0/IRQ_5, 9 PTB1/IRQ_6, 10 PTB2/IRQ_7, 11 PTB3/IRQ_10, 12 PTB4/IRQ_11, 13 PTB5/IRQ_12, 14 PTA0/IRQ_0, 15 PTA1/IRQ_1/LPTMR0_ALT1, 16 PTA2, 17 EP

## MKL02Z32VFG4_1
designator U?, comment MKL02Z32VFG4
32 Bit Microcontroller, Kinetis L Series Ultra Low Power, ARM Cortex-M0+, 48 MHz, 32 KB, 4 KB, 16; MF: NXP USA; Package: QFN-16 NXP Semiconductors; Availability: Unavailable; MP: MKL02Z32VFG4; SnapEDA_Link: https://www.snapeda.com/parts/MKL02Z32VFG4/NXP%20USA%20Inc./view-part/?ref=snap; Price: None; Value: *
footprint *QFN50P300X300X65-17N
pins: 1 VDD/VREFH (power), 2 VREFL/VSS (power), 3 PTA3 (io), 4 PTA4 (io), 5 PTA5 (io), 6 PTA6 (io), 7 PTA7/IRQ_4 (io), 8 PTB0/IRQ_5 (io), 9 PTB1/IRQ_6 (io), 10 PTB2/IRQ_7 (io), 11 PTB3/IRQ_10 (io), 12 PTB4/IRQ_11 (io), 13 PTB5/IRQ_12 (io), 14 PTA0/IRQ_0 (io), 15 PTA1/IRQ_1/LPTMR0_ALT1 (io), 16 PTA2 (io), 17 EXP (power)

## molex picoblade 6 circuits
designator J?, comment 1.25mm 6 pin connector
1.25mm _.049_ Pitch PicoBlade Header, Surface Mount, Right Angle, Lead-free, 6 Circuits; MP: 0532610671; MF: Molex; SnapEDA_Link: https://www.snapeda.com/parts/0532610671/Molex/view-part/?ref=snap; Price: None; Package: None; Availability: Unavailable; Value: *
footprint *MOLEX_0532610671_0532610671(Primary)
pins: 1, 2, 3, 4, 5, 6, S1 SHIELD, S2 SHIELD

## MPU-9250
designator U?
IMUs - Inertial Measurement Units RECOMMENDED ALT 410-ICM-20948; MF: TDK InvenSense; Package: TFQFN-24 TDK InvenSense; Availability: Unavailable; MP: MPU-9250; SnapEDA_Link: https://www.snapeda.com/parts/MPU-9250/TDK%20InvenSense/view-part/?ref=snap; Price: None; Value: *
footprint *QFN40P300X300X105-24N
pins: 1 RESV_1, 7 AUX_CL (in), 8 VDDIO (power), 9 AD0/SDO (out), 10 REGOUT (out), 11 FSYNC (in), 12 INT (out), 13 VDD (power), 18 GND (power), 19 RESV_19, 20 RESV_20, 21 AUX_DA (in), 22 ~{CS} (in), 23 SCL/SCLK (in), 24 SDA/SDI (io)

## MT3608
designator U?
Undefined or Miscellaneous; Manufacturer_Name: Aerosemi; Manufacturer_Part_Number: MT3608; Datasheet Link: https://www.olimex.com/Products/Breadboarding/BB-PWR-3608/resources/MT3608.pdf; Height: 1.45mm
footprint SOT95P280X145-6N
pins: 1 SW, 2 GND, 3 FB, 4 EN, 5 IN, 6 NC

## NCP303LSN36T1G
designator U?
C: Copyright (C) 2016 Accelerated Designs. All rights reserved; Vendor: ON Semiconductor; Value: NCP303LSN36T1G; Manufacturer_Part_Number: NCP303LSN36T1G; Copyright: Copyright (C) 2016 Accelerated Designs. All rights reserved
footprint TSOP-5
pins: 1 RESET/OUTPUT (io), 2 INPUT (in), 3 GROUND (power), 4 NC, 5 CD

## NX3225SA-12.000M-STD-CRS-2
designator Y?
Crystal 12.0000mhz 8pf Smd; MF: NDK America,; MP: NX3225SA-12.000M-STD-CRS-2; Price: None; SnapEDA_Link: https://www.snapeda.com/parts/NX3225SA-12.000M-STD-CRS-2/NDK%20America%2C%20Inc./view-part/?ref=snap; Availability: Unavailable; Package: SMD-4 NDK America; Value: *
footprint *OSCCC320X250X60N
pins: 1, 2 GND, 3, 4 GND

## PC817X1NIP0F
designator IC?
Integrated Circuit; Manufacturer_Name: Sharp Microelectronics; Manufacturer_Part_Number: PC817X1NIP0F; Datasheet Link: http://docs-emea.rs-online.com/webdocs/1327/0900766b81327ad8.pdf; Height: 4mm; Mouser Part Number: N/A; Mouser Price/Stock: https://www.mouser.com/Search/Refine.aspx?Keyword=N%2FA; RS Part Number: 8264647P; RS Price/Stock: http://uk.rs-online.com/web/p/products/8264647P
footprint SOP254P975X400-4N
pins: 1 ANODE, 2 CATHODE, 3 EMITTER, 4 COLLECTOR

## PC817X2NIP0F
designator U?
Optocoupler DC-IN 1-CH Transistor DC-OUT 4-Pin PDIP SMD; MF: Sharp Microelectronics; Package: SMD-4 Sharp; Price: None; SnapEDA_Link: https://www.snapeda.com/parts/PC817X2NIP0F/Sharp%20Microelectronics/view-part/?ref=snap; MP: PC817X2NIP0F; Availability: Unavailable; Value: *
footprint *SOT254P975X400-4N
pins: 1 A, 2 C, 3 ET, 4 CT

## resistor
designator R?
Resistor; value: *
footprint RESC1608X55N
pins: 1, 2

## SI4143DY-T1-GE3
designator IC?
Integrated Circuit
footprint SI4143DY-T1-GE3
pins: 1 S, 2 S, 3 S, 4 G, 5 D, 6 D, 7 D, 8 D (power)

## SS34_1
designator D?, comment SS34
Diode Schottky 40V 3A 2-Pin SMC T/R; MF: ON Semiconductor; MP: SS34; SnapEDA_Link: https://www.snapeda.com/parts/SS34/ON%20Semiconductor/view-part/?ref=snap; Price: None; Package: DO-214AB-214 ON Semiconductor; Availability: Unavailable; Value: *
footprint *SMA
pins: A, C

## STM32F042K6T7
designator IC?
Entry-level ARM Cortex-M0 USB line MCU with 32 Kbytes Flash, 48 MHz CPU, USB, CAN and CEC functions; MF: STMicroelectronics; MP: STM32F042K6T7; Package: LQFP-32 STMicroelectronics; SnapEDA_Link: https://www.snapeda.com/parts/STM32F042K6T7/STMicroelectronics/view-part/?ref=snap; Price: None; Availability: Unavailable; Value: *
footprint *QFP80P900X900X160-32N
pins: 1 VDD (power), 2 PF0 (io), 3 PF1 (io), 4 ~{RST} (in), 5 VDDA (power), 6 PA0 (io), 7 PA1 (io), 8 PA2 (io), 9 PA3 (io), 10 PA4 (io), 11 PA5 (io), 12 PA6 (io), 13 PA7 (io), 14 PB0 (io), 15 PB1 (io), 16 VSS, 17 VDDIO2 (power), 18 PA8 (io), 19 PA9 (io), 20 PA10 (io), 21 PA11 (io), 22 PA12 (io), 23 PA13 (io), 24 PA14 (io), 25 PA15 (io), 26 PB3 (io), 27 PB4 (io), 28 PB5 (io), 29 PB6 (io), 30 PB7 (io), 31 PB8 (io), 32 VSSA

## STM32F103CBT6
designator U?
Mainstream Performance line, ARM Cortex-M3 MCU with 128 Kbytes Flash, 72 MHz CPU, motor control, USB and CAN; MF: STMicroelectronics; MP: STM32F103CBT6; Price: None; SnapEDA_Link: https://www.snapeda.com/parts/STM32F103CBT6/STMicroelectronics/view-part/?ref=snap; Availability: Unavailable; Package: LQFP-48 STMicroelectronics; Value: *
footprint *QFP50P900X900X160-48N
pins: 1 VBAT (power), 2 PC13-TAMPER-RTC (io), 3 PC14-OSC32_IN (io), 4 PC15-OSC32_OUT (io), 5 PD0-OSC_IN (io), 6 PD1-OSC_OUT (io), 7 NRST (io), 8 VSSA (power), 9 VDDA (power), 10 PA0-WKUP (io), 11 PA1 (io), 12 PA2 (io), 13 PA3 (io), 14 PA4 (io), 15 PA5 (io), 16 PA6 (io), 17 PA7 (io), 18 PB0 (io), 19 PB1 (io), 20 PB2 (io), 21 PB10 (io), 22 PB11 (io), 23 VSS_1 (power), 24 VDD_1 (power), 25 PB12 (io), 26 PB13 (io), 27 PB14 (io), 28 PB15 (io), 29 PA8 (io), 30 PA9 (io), 31 PA10 (io), 32 PA11 (io), 33 PA12 (io), 34 PA13 (io), 35 VSS_2 (power), 36 VDD_2 (power), 37 PA14 (io), 38 PA15 (io), 39 PB3 (io), 40 PB4 (io), 41 PB5 (io), 42 PB6 (io), 43 PB7 (io), 44 BOOT0 (in), 45 PB8 (io), 46 PB9 (io), 47 VSS_3 (power), 48 VDD_3 (power)

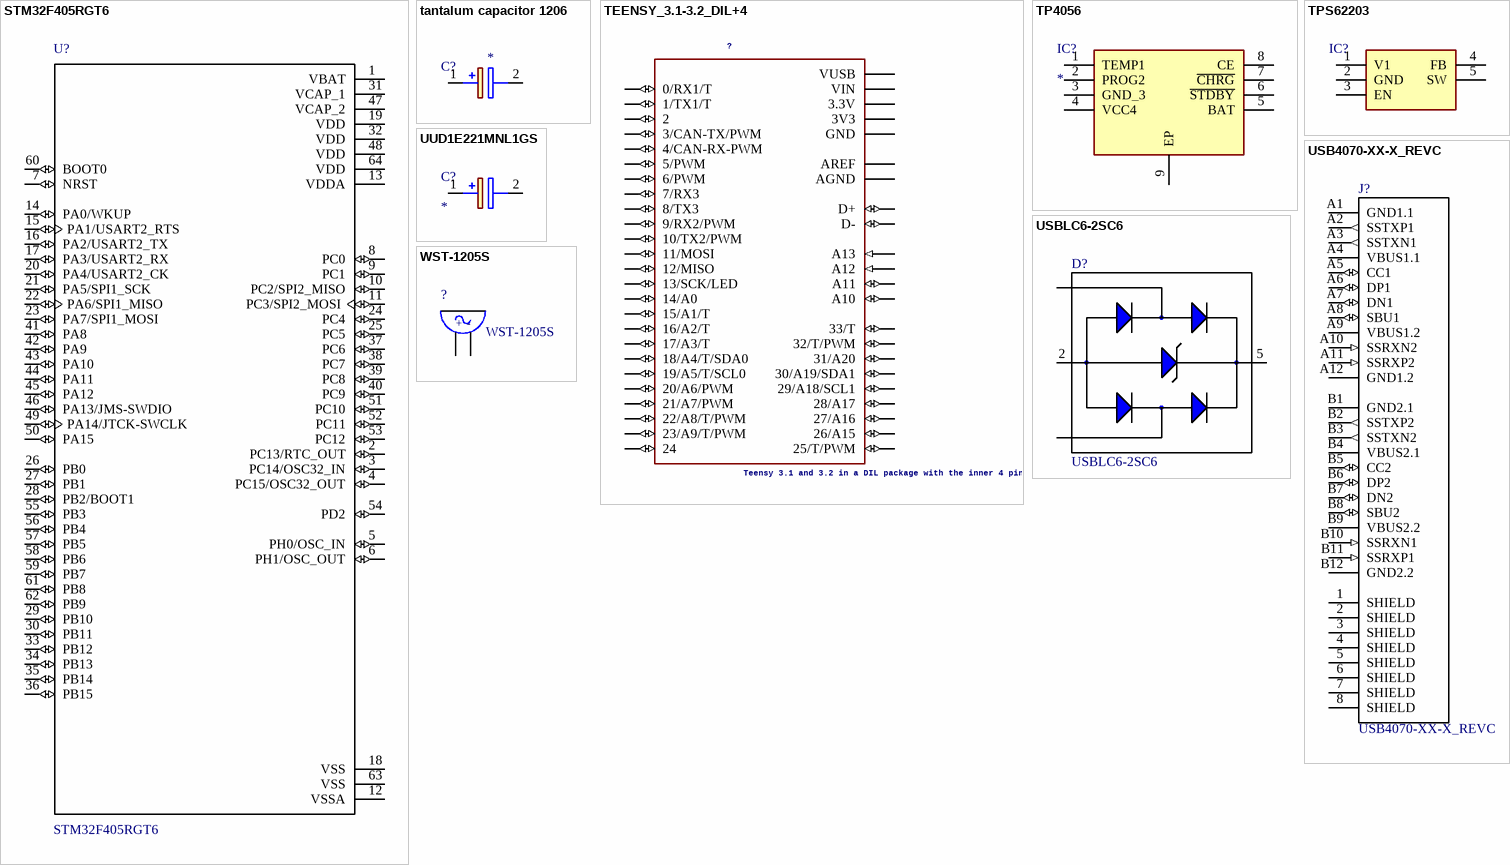
[diagram p4: symbols STM32F405RGT6 to WST-1205S]

## STM32F405RGT6
designator U?
High-performance foundation line, ARM Cortex-M4 core with DSP and FPU, 1 Mbyte Flash, 168 MHz CPU, ART Accelerator; MF: STMicroelectronics; MP: STM32F405RGT6; Price: None; SnapEDA_Link: https://www.snapeda.com/parts/STM32F405RGT6/STMicroelectronics/view-part/?ref=snap; Availability: Unavailable; Package: LQFP-64 STMicroelectronics; Value: *
footprint *QFP50P1200X1200X160-64N
pins: 1 VBAT (power), 2 PC13/RTC_OUT (io), 3 PC14/OSC32_IN (io), 4 PC15/OSC32_OUT (io), 5 PH0/OSC_IN (io), 6 PH1/OSC_OUT (io), 7 NRST (io), 8 PC0 (io), 9 PC1 (io), 10 PC2/SPI2_MISO (io), 11 PC3/SPI2_MOSI (io), 12 VSSA (power), 13 VDDA (power), 14 PA0/WKUP (io), 15 PA1/USART2_RTS (io), 16 PA2/USART2_TX (io), 17 PA3/USART2_RX (io), 18 VSS (power), 19 VDD (power), 20 PA4/USART2_CK (io), 21 PA5/SPI1_SCK (io), 22 PA6/SPI1_MISO (io), 23 PA7/SPI1_MOSI (io), 24 PC4 (io), 25 PC5 (io), 26 PB0 (io), 27 PB1 (io), 28 PB2/BOOT1 (io), 29 PB10 (io), 30 PB11 (io), 31 VCAP_1 (power), 32 VDD (power), 33 PB12 (io), 34 PB13 (io), 35 PB14 (io), 36 PB15 (io), 37 PC6 (io), 38 PC7 (io), 39 PC8 (io), 40 PC9 (io), 41 PA8 (io), 42 PA9 (io), 43 PA10 (io), 44 PA11 (io), 45 PA12 (io), 46 PA13/JMS-SWDIO (io), 47 VCAP_2 (power), 48 VDD (power), 49 PA14/JTCK-SWCLK (io), 50 PA15 (io), 51 PC10 (io), 52 PC11 (io), 53 PC12 (io), 54 PD2 (io), 55 PB3 (io), 56 PB4 (io), 57 PB5 (io), 58 PB6 (io), 59 PB7 (io), 60 BOOT0 (io), 61 PB8 (io), 62 PB9 (io), 63 VSS (power), 64 VDD (power)

## tantalum capacitor 1206
designator C?
Capacitor Polarised; value: *
footprint CAPPM3216X180N
pins: 1 +, 2 -

## TEENSY_3.1-3.2_DIL+4
designator ?, comment Teensy 3.1 and 3.2 in a DIL package with the inner 4 pins
GateName_1: G$1; SymbolName_1: TEENSY_3.1-3.2_DIL+4; LibraryName: Teensy_3_and_LC_Series_Boards_v1.4; DeviceSetName: TEENSY_3.1-3.2_DIL+4; Package: TEENSY_3.0-3.2&LC_DIL+4
footprint TEENSY_3.0-3.2&LC_DIL+4
pins: 0 0/RX1/T (io), 1 1/TX1/T (io), 2 (io), 3 3/CAN-TX/PWM (io), 3.3V (power), 3V 3V3 (power), 4 4/CAN-RX-PWM (io), 5 5/PWM (io), 6 6/PWM (io), 7 7/RX3 (io), 8 8/TX3 (io), 9 9/RX2/PWM (io), 10 10/TX2/PWM (io), 11 11/MOSI (io), 12 12/MISO (io), 13 13/SCK/LED (io), 14/A0 (io), 15/A1 15/A1/T (io), 16/A2 16/A2/T (io), 17/A3 17/A3/T (io), 18/A4 18/A4/T/SDA0 (io), 19/A5 19/A5/T/SCL0 (io), 20/A6 20/A6/PWM (io), 21/A7 21/A7/PWM (io), 22/A8 22/A8/T/PWM (io), 23/A9 23/A9/T/PWM (io), 24 (io), 25 25/T/PWM (io), 26 26/A15 (io), 27 27/A16 (io), 28 28/A17 (io), 29 29/A18/SCL1 (io), 30 30/A19/SDA1 (io), 31 31/A20 (io), 32 32/T/PWM (io), 33 33/T (io), A10 (io), A11 (io), A12 (in), A13 (in), AGND (power), AREF (power), D+ (io), D- (io), GND (power), VIN (power), VUSB (power)

## TP4056
designator IC?
Integrated Circuit; Manufacturer_Name: NanJing Top Power; Manufacturer_Part_Number: TP4056; Datasheet Link: https://dlnmh9ip6v2uc.cloudfront.net/datasheets/Prototyping/TP4056.pdf; Height: 1.75mm
footprint SOIC127P600X175-9N
pins: 1 TEMP1, 2 PROG2, 3 GND_3, 4 VCC4, 5 BAT, 6 ~{STDBY}, 7 ~{CHRG}, 8 CE, 9 EP

## TPS62203
designator IC?  (value not drawn)
Integrated Circuit
footprint SOT95P280X145-5N
pins: 1 V1, 2 GND, 3 EN, 4 FB, 5 SW

## USB4070-XX-X_REVC
designator J?
Usb Type c Rec. 30 , Vertical, Smt With Stakes & Pegs, Tray; MP: USB4070-30-B; MF: Global Connector Technology; SnapEDA_Link: https://www.snapeda.com/parts/USB4070-30-B/Global%20Connector%20Technology/view-part/?ref=snap; Package: None; Price: None; Availability: Unavailable; Value: *
footprint *GCT_USB4070-XX-X_REVC_USB4070-XX-X_REVC(Primary)
pins: 1 SHIELD, 2 SHIELD, 3 SHIELD, 4 SHIELD, 5 SHIELD, 6 SHIELD, 7 SHIELD, 8 SHIELD, A1 GND1.1 (power), A2 SSTXP1 (out), A3 SSTXN1 (out), A4 VBUS1.1 (power), A5 CC1 (io), A6 DP1 (io), A7 DN1 (io), A8 SBU1 (io), A9 VBUS1.2 (power), A10 SSRXN2 (in), A11 SSRXP2 (in), A12 GND1.2 (power), B1 GND2.1 (power), B2 SSTXP2 (out), B3 SSTXN2 (out), B4 VBUS2.1 (power), B5 CC2 (io), B6 DP2 (io), B7 DN2 (io), B8 SBU2 (io), B9 VBUS2.2 (power), B10 SSRXN1 (in), B11 SSRXP1 (in), B12 GND2.2 (power)

## USBLC6-2SC6
designator D?
USBLC6 Series 2 Line 6 V Uni / Bi-Directional ESD Protection - SOT-23-6; MF: STMicroelectronics; Package: SOT-23-6 STMicroelectronics; Price: None; SnapEDA_Link: https://www.snapeda.com/parts/USBLC6-2SC6/STMicroelectronics/view-part/?ref=snap; MP: USBLC6-2SC6; Availability: Unavailable; Value: *
footprint *SOT95P280X145-6N
pins: 1 I/O1 (io), 2 GND (power), 3 I/O2 (io), 4 I/O2 (io), 5 VBUS (power), 6 I/O1 (io)

## UUD1E221MNL1GS
designator C?
Capacitor Polarised; Manufacturer_Name: Nichicon; Manufacturer_Part_Number: UUD1E221MNL1GS; Allied_Number: 70409814; Datasheet Link: https://www.mouser.com/datasheet/2/293/e-uud-1513238.pdf; Height: 10.5mm; Mouser1 Part Number: 647-UUD1E221MNL; Mouser1 Price/Stock: https://www.mouser.com/Search/Refine.aspx?Keyword=647-UUD1E221MNL; RS Part Number: 7393453P; RS Price/Stock: http://uk.rs-online.com/web/p/products/7393453P; Allied Price/Stock: https://www.alliedelec.com/nichicon-uud1e221mnl1gs/70409814/
footprint CAPAE830X1050N
pins: 1 +, 2 -

## WST-1205S
designator ?
Buzzer 2.3khz 4-6vdc Pcb Wash; MF: Soberton Inc.; Price: None; Package: Soberton Inc.; MP: WST-1205S; Availability: Unavailable; SnapEDA_Link: https://www.snapeda.com/parts/WST-1205S/Soberton%20Inc./view-part/?ref=snap; Value: *
footprint *WST-1205S_WST-1205S(Primary)
pins: NEG 2, POS 1
text: +; -